# Altium schematic symbol library Schlib1.SchLib: 19 symbols
Pins are listed as number, name and electrical type; pins without a type are passive.

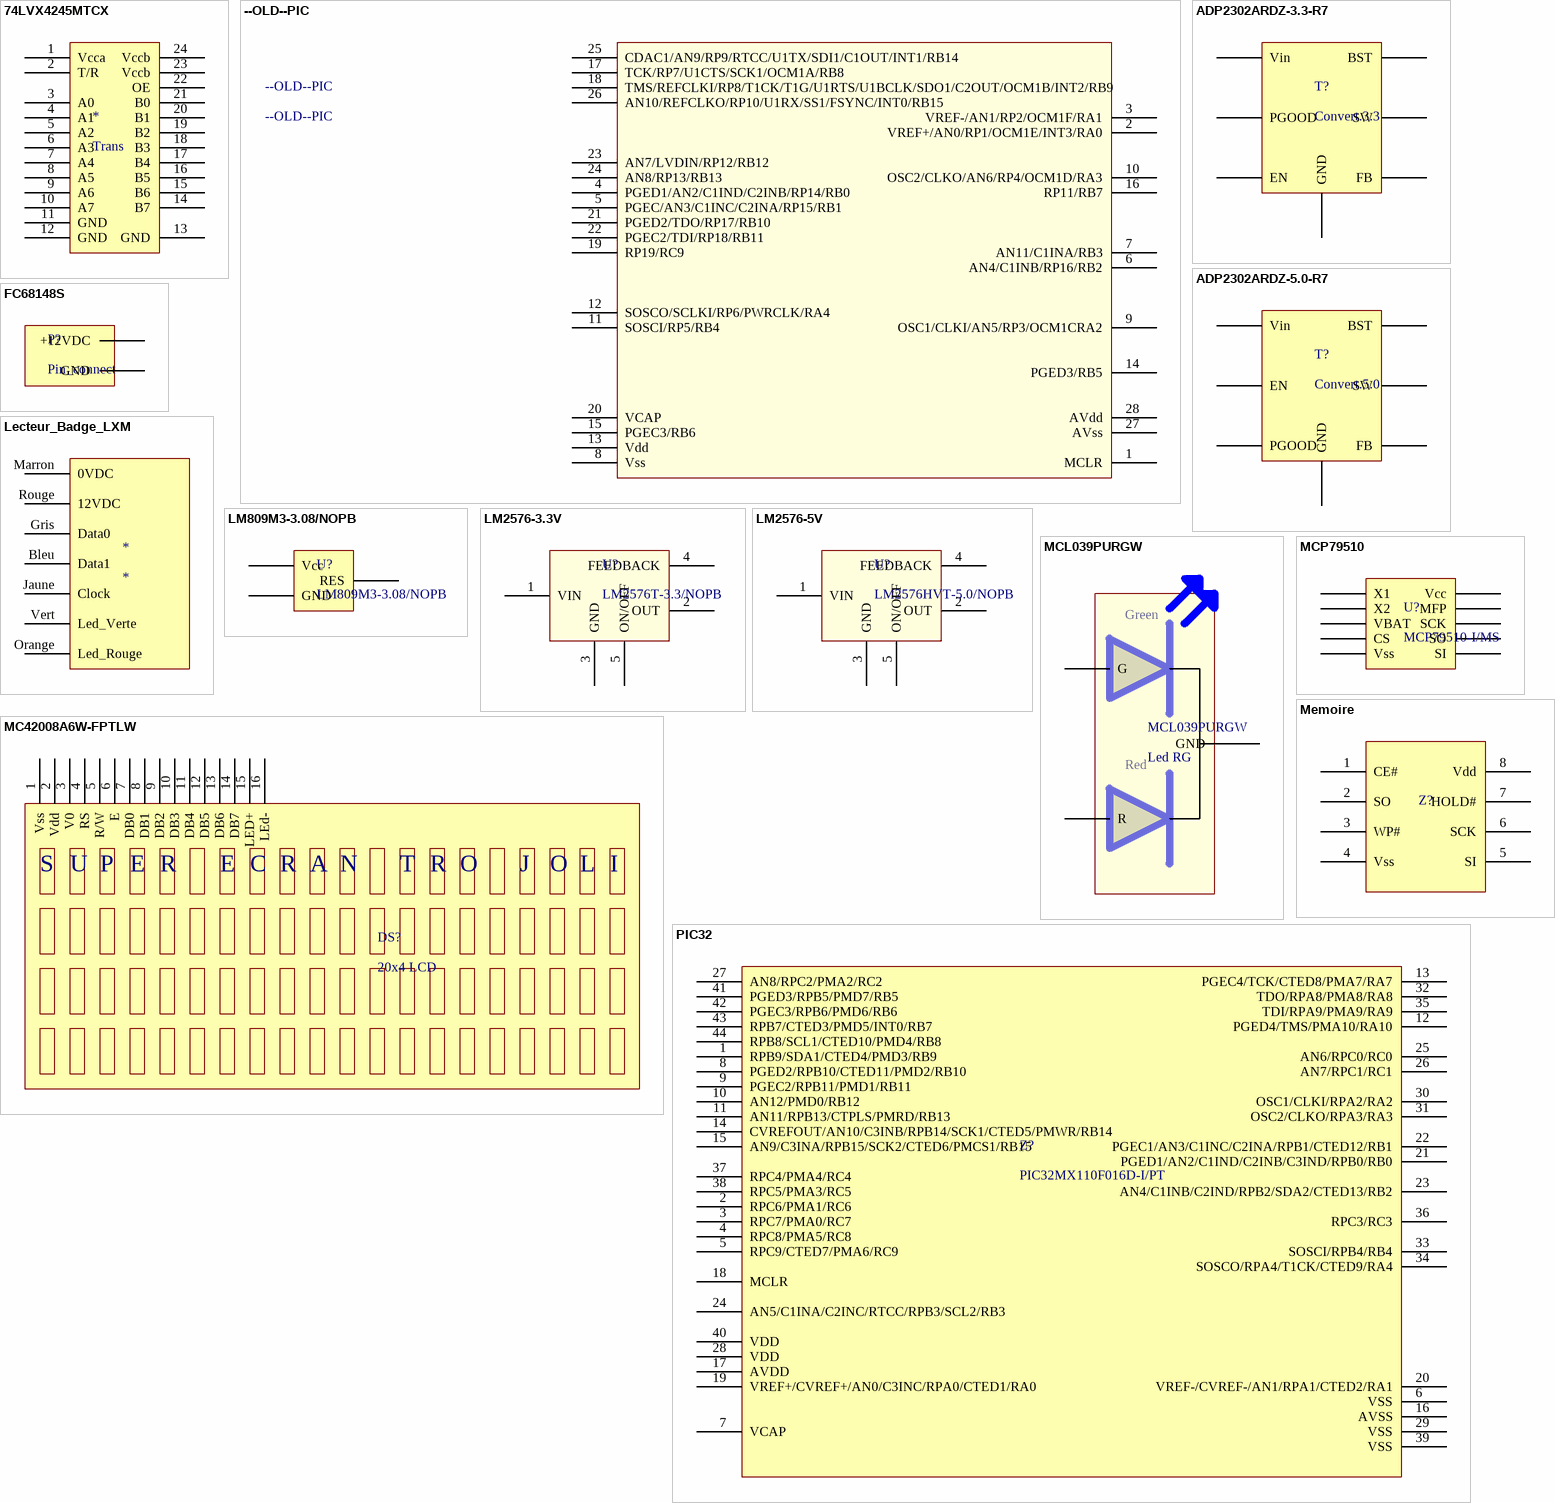
[diagram p0: symbols 74LVX4245MTCX to PIC32]

## 74LVX4245MTCX
designator *, comment Trans
Fabricant: ON SEMICONDUCTOR; Ref.Fabricant: 74LVX4245MTCX; Fournisseur: Farnell; Ref.Fournisseur: 1467357
footprint TRANS (SSOP; 24 Leads; Body Width 3.9 mm; Pitch 0.635 mm)
pins: 1 Vcca, 2 T/R, 3 A0, 4 A1, 5 A2, 6 A3, 7 A4, 8 A5, 9 A6, 10 A7, 11 GND, 12 GND, 13 GND, 14 B7, 15 B6, 16 B5, 17 B4, 18 B3, 19 B2, 20 B1, 21 B0, 22 OE, 23 Vccb, 24 Vccb

## --OLD--PIC
designator --OLD--PIC
Fabricant: Microchip; Ref.Fabricant: PIC32MM0064GPL028-I/SO; Fournisseur: Farnell; Ref.Fournisseur: 2610365
pins: 1 MCLR, 2 VREF+/AN0/RP1/OCM1E/INT3/RA0, 3 VREF-/AN1/RP2/OCM1F/RA1, 4 PGED1/AN2/C1IND/C2INB/RP14/RB0, 5 PGEC/AN3/C1INC/C2INA/RP15/RB1, 6 AN4/C1INB/RP16/RB2, 7 AN11/C1INA/RB3, 8 Vss, 9 OSC1/CLKI/AN5/RP3/OCM1CRA2, 10 OSC2/CLKO/AN6/RP4/OCM1D/RA3, 11 SOSCI/RP5/RB4, 12 SOSCO/SCLKI/RP6/PWRCLK/RA4, 13 Vdd, 14 PGED3/RB5, 15 PGEC3/RB6, 16 RP11/RB7, 17 TCK/RP7/U1CTS/SCK1/OCM1A/RB8, 18 TMS/REFCLKI/RP8/T1CK/T1G/U1RTS/U1BCLK/SDO1/C2OUT/OCM1B/INT2/RB9, 19 RP19/RC9, 20 VCAP, 21 PGED2/TDO/RP17/RB10, 22 PGEC2/TDI/RP18/RB11, 23 AN7/LVDIN/RP12/RB12, 24 AN8/RP13/RB13, 25 CDAC1/AN9/RP9/RTCC/U1TX/SDI1/C1OUT/INT1/RB14, 26 AN10/REFCLKO/RP10/U1RX/SS1/FSYNC/INT0/RB15, 27 AVss, 28 AVdd

## ADP2302ARDZ-3.3-R7
designator T?, comment Convert.3.3
Fournisseur: Farnell; Ref.Fournisseur: 2376914; Fabricant: Analog Devices; Ref.Fabricant: ADP2302ARDZ-3.3-R7
footprint RD_8_1
pins: BST, EN, FB, GND, PGOOD, SW, Vin

## ADP2302ARDZ-5.0-R7
designator T?, comment Convert.5.0
Fournisseur: Farnell; Ref.Fournisseur: 2727507; Fabricant: Analog Devices; Ref.Fabricant: ADP2302ARDZ-5.0-R7
footprint RD_8_1
pins: BST, EN, FB, GND, PGOOD, SW, Vin

## FC68148S
designator P?, comment Pin_connect
Fournisseur: Farnell; Ref.Fournisseur: 1854512; Fabricant: CLIFF; Ref.Fabricant: FC681465P
footprint FC681465P (Connecteur Jack 12V)
pins: +12VDC, GND

## Lecteur_Badge_LXM
designator *
Fournisseur: Gregoire; Fabricant: Stid-Security; Ref.Fournisseur: :); Ref.Fabricant: LXM_WIEGAND44b
pins: Bleu Data1, Gris Data0, Jaune Clock, Marron 0VDC, Orange Led_Rouge, Rouge 12VDC, Vert Led_Verte

## LM809M3-3.08/NOPB
designator U?
Voltage Monitor; Fournisseur: Farnell; Ref.Founisseur: 2352609; Fabricant: TEXAS INSTRUMENTS; Ref.Fabricant: LM809M3-3.08/NOPB
footprint LM809
pins: GND, RES, Vcc

## LM2576-3.3V
designator U?, comment LM2576T-3.3/NOPB
Regulateur de Tension 3.3V; Ref.Fournisseur: 2382916; Fabricant: TEXAS INSTRUMENTS; Fournisseur: Farnell; Ref.Fabricant: LM2576T-3.3/NOPB
pins: 1 VIN, 2 OUT, 3 GND, 4 FEEDBACK, 5 ON/OFF

## LM2576-5V
designator U?, comment LM2576HVT-5.0/NOPB
Regulateur de Tension 5V; Ref.Fournisseur: 1469176; Fabricant: TEXAS INSTRUMENTS; Fournisseur: Farnell; Ref.Fabricant: LM2576HVT-5.0/NOPB
pins: 1 VIN, 2 OUT, 3 GND, 4 FEEDBACK, 5 ON/OFF

## MC42008A6W-FPTLW
designator DS?, comment 20x4 LCD
Fournisseur: Farnell; Ref.Fournisseur: 2606880; Fabricant: Midas; Ref.Fabricant: MC42008A6W-FPTLW
pins: 1 Vss, 2 Vdd, 3 V0, 4 RS, 5 R/W, 6 E, 7 DB0, 8 DB1, 9 DB2, 10 DB3, 11 DB4, 12 DB5, 13 DB6, 14 DB7, 15 LED+, 16 LEd-
text: S; U; P; R; C; A; N; T; O; J; L; I

## MCL039PURGW
designator MCL039PURGW, comment Led RG
Fournisseur: Farnell; Fabricant: Multicomp; Ref.Fabricant: MCL039PURGW; Ref.Fournisseur: 1581194
pins: G, GND, R
text: Green; Red

## MCP79510
designator U?, comment MCP79510-I/MS
RTC; Fournisseur: Farnell; Ref.Fournisseur: 2361124; Fabricant: Microchip; Ref.Fabricant: MCP79510-I/MS
footprint MICROCHIP MSOP-10 UN (MSOP, 10-Leads, Body 3.00x3.00mm, Pitch 0.50mm, IPC Medium Density)
pins: 1 X1, 2 X2, 3 VBAT, 4 CS, 5 Vss, 6 SI, 7 SO, 8 SCK, 9 MFP, 10 Vcc

## Memoire
designator Z?  (value not drawn)
Fournisseur: Farnell; Fabricant: Microchip; Ref.Fabricant: SST25VF016B-50-4I-S2AF-T; Ref.Fournisseur: 2774943
footprint SOIC208-8_L (8-Pin Plastic Medium Body Small Outline Package 1.27 mm Pitch, IPC High Density)
pins: 1 CE#, 2 SO, 3 WP#, 4 Vss, 5 SI, 6 SCK, 7 HOLD#, 8 Vdd

## PIC32
designator Z?, comment PIC32MX110F016D-I/PT
PIC; Fournisseur: Farnell; Fabricant: MICROCHIP; Ref.Fournisseur: 2057068; Ref.Fabricant: PIC32MX110F016D-I/PT
footprint TQFP-44_L (44-Pin Thin Quad Flat Pack 0.8 mm Pitch, 1.0/0.1 mm Lead Form, IPC High Density)
pins: 1 RPB9/SDA1/CTED4/PMD3/RB9, 2 RPC6/PMA1/RC6, 3 RPC7/PMA0/RC7, 4 RPC8/PMA5/RC8, 5 RPC9/CTED7/PMA6/RC9, 6 VSS, 7 VCAP, 8 PGED2/RPB10/CTED11/PMD2/RB10, 9 PGEC2/RPB11/PMD1/RB11, 10 AN12/PMD0/RB12, 11 AN11/RPB13/CTPLS/PMRD/RB13, 12 PGED4/TMS/PMA10/RA10, 13 PGEC4/TCK/CTED8/PMA7/RA7, 14 CVREFOUT/AN10/C3INB/RPB14/SCK1/CTED5/PMWR/RB14, 15 AN9/C3INA/RPB15/SCK2/CTED6/PMCS1/RB15, 16 AVSS, 17 AVDD, 18 MCLR, 19 VREF+/CVREF+/AN0/C3INC/RPA0/CTED1/RA0, 20 VREF-/CVREF-/AN1/RPA1/CTED2/RA1, 21 PGED1/AN2/C1IND/C2INB/C3IND/RPB0/RB0, 22 PGEC1/AN3/C1INC/C2INA/RPB1/CTED12/RB1, 23 AN4/C1INB/C2IND/RPB2/SDA2/CTED13/RB2, 24 AN5/C1INA/C2INC/RTCC/RPB3/SCL2/RB3, 25 AN6/RPC0/RC0, 26 AN7/RPC1/RC1, 27 AN8/RPC2/PMA2/RC2, 28 VDD, 29 VSS, 30 OSC1/CLKI/RPA2/RA2, 31 OSC2/CLKO/RPA3/RA3, 32 TDO/RPA8/PMA8/RA8, 33 SOSCI/RPB4/RB4, 34 SOSCO/RPA4/T1CK/CTED9/RA4, 35 TDI/RPA9/PMA9/RA9, 36 RPC3/RC3, 37 RPC4/PMA4/RC4, 38 RPC5/PMA3/RC5, 39 VSS, 40 VDD, 41 PGED3/RPB5/PMD7/RB5, 42 PGEC3/RPB6/PMD6/RB6, 43 RPB7/CTED3/PMD5/INT0/RB7, 44 RPB8/SCL1/CTED10/PMD4/RB8

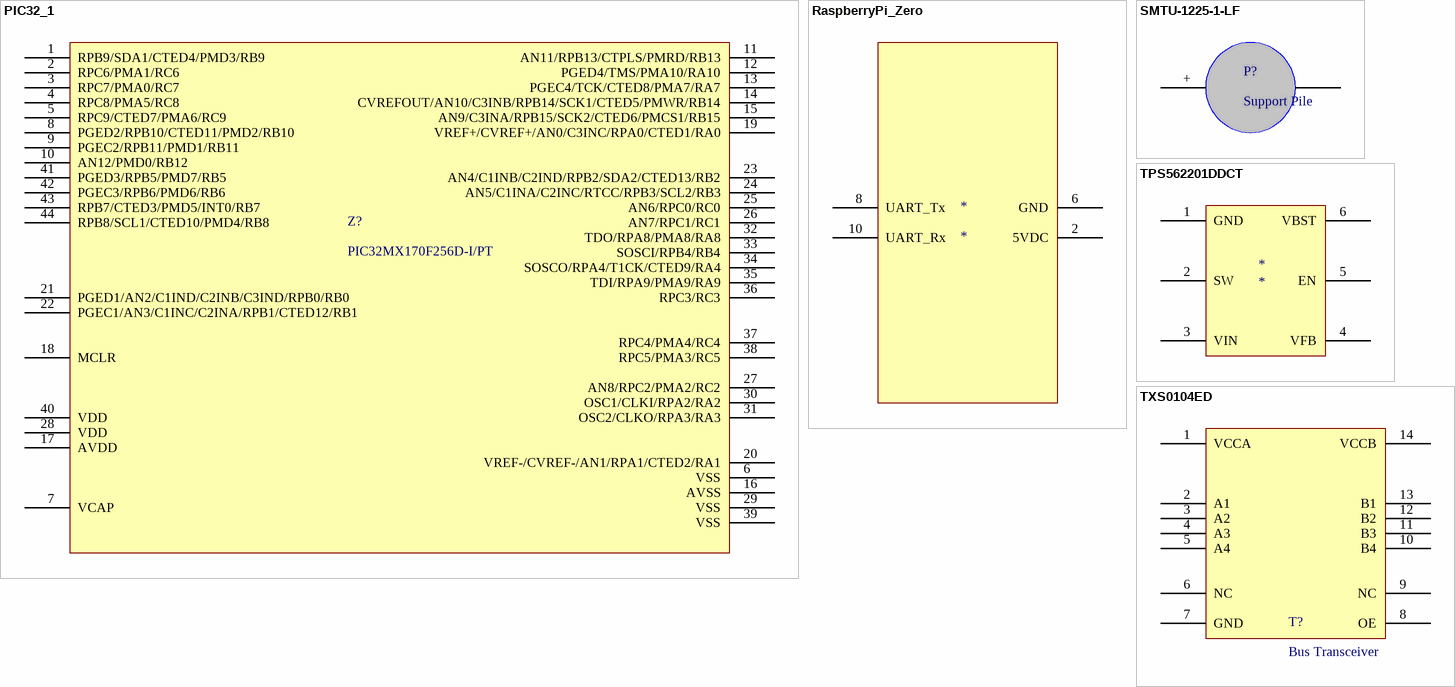
[diagram p1: symbols PIC32_1 to TXS0104ED]

## PIC32_1
designator Z?, comment PIC32MX170F256D-I/PT
PIC; Fournisseur: Farnell; Fabricant: MICROCHIP; Ref.Fournisseur: 2456845; Ref.Fabricant: PIC32MX170F256D-I/PT
footprint TQFP-44_L (44-Pin Thin Quad Flat Pack 0.8 mm Pitch, 1.0/0.1 mm Lead Form, IPC High Density)
pins: 1 RPB9/SDA1/CTED4/PMD3/RB9, 2 RPC6/PMA1/RC6, 3 RPC7/PMA0/RC7, 4 RPC8/PMA5/RC8, 5 RPC9/CTED7/PMA6/RC9, 6 VSS, 7 VCAP, 8 PGED2/RPB10/CTED11/PMD2/RB10, 9 PGEC2/RPB11/PMD1/RB11, 10 AN12/PMD0/RB12, 11 AN11/RPB13/CTPLS/PMRD/RB13, 12 PGED4/TMS/PMA10/RA10, 13 PGEC4/TCK/CTED8/PMA7/RA7, 14 CVREFOUT/AN10/C3INB/RPB14/SCK1/CTED5/PMWR/RB14, 15 AN9/C3INA/RPB15/SCK2/CTED6/PMCS1/RB15, 16 AVSS, 17 AVDD, 18 MCLR, 19 VREF+/CVREF+/AN0/C3INC/RPA0/CTED1/RA0, 20 VREF-/CVREF-/AN1/RPA1/CTED2/RA1, 21 PGED1/AN2/C1IND/C2INB/C3IND/RPB0/RB0, 22 PGEC1/AN3/C1INC/C2INA/RPB1/CTED12/RB1, 23 AN4/C1INB/C2IND/RPB2/SDA2/CTED13/RB2, 24 AN5/C1INA/C2INC/RTCC/RPB3/SCL2/RB3, 25 AN6/RPC0/RC0, 26 AN7/RPC1/RC1, 27 AN8/RPC2/PMA2/RC2, 28 VDD, 29 VSS, 30 OSC1/CLKI/RPA2/RA2, 31 OSC2/CLKO/RPA3/RA3, 32 TDO/RPA8/PMA8/RA8, 33 SOSCI/RPB4/RB4, 34 SOSCO/RPA4/T1CK/CTED9/RA4, 35 TDI/RPA9/PMA9/RA9, 36 RPC3/RC3, 37 RPC4/PMA4/RC4, 38 RPC5/PMA3/RC5, 39 VSS, 40 VDD, 41 PGED3/RPB5/PMD7/RB5, 42 PGEC3/RPB6/PMD6/RB6, 43 RPB7/CTED3/PMD5/INT0/RB7, 44 RPB8/SCL1/CTED10/PMD4/RB8

## RaspberryPi_Zero
designator *
pins: 2 5VDC, 6 GND, 8 UART_Tx, 10 UART_Rx

## SMTU-1225-1-LF
designator P?, comment Support Pile
Fournisseur: Farnell; Fabricant: Renata; Ref.Fabricant: SMTU-1225-1-LF; Ref.Fournisseur: 1216353
footprint Pile
pins: +, -

## TPS562201DDCT
designator *
Reg 12V-5V; Ref.Fournisseur: 2527034; Fournisseur: Farnell; Fabricant: TPS562201DDCT; Ref.Fabricant: Texas Instrument
pins: 1 GND, 2 SW, 3 VIN, 4 VFB, 5 EN, 6 VBST

## TXS0104ED
designator T?, comment Bus Transceiver
Fournisseur: Farnell; Fabricant: Texas Instruments; Ref.Fabricant: TXS0104ED; Ref.Fournisseur: 1607892
pins: 1 VCCA, 2 A1, 3 A2, 4 A3, 5 A4, 6 NC, 7 GND, 8 OE, 9 NC, 10 B4, 11 B3, 12 B2, 13 B1, 14 VCCB